# Altium integrated library TB's.IntLib: 17 symbols
Pins are listed as number, name and electrical type; pins without a type are passive.

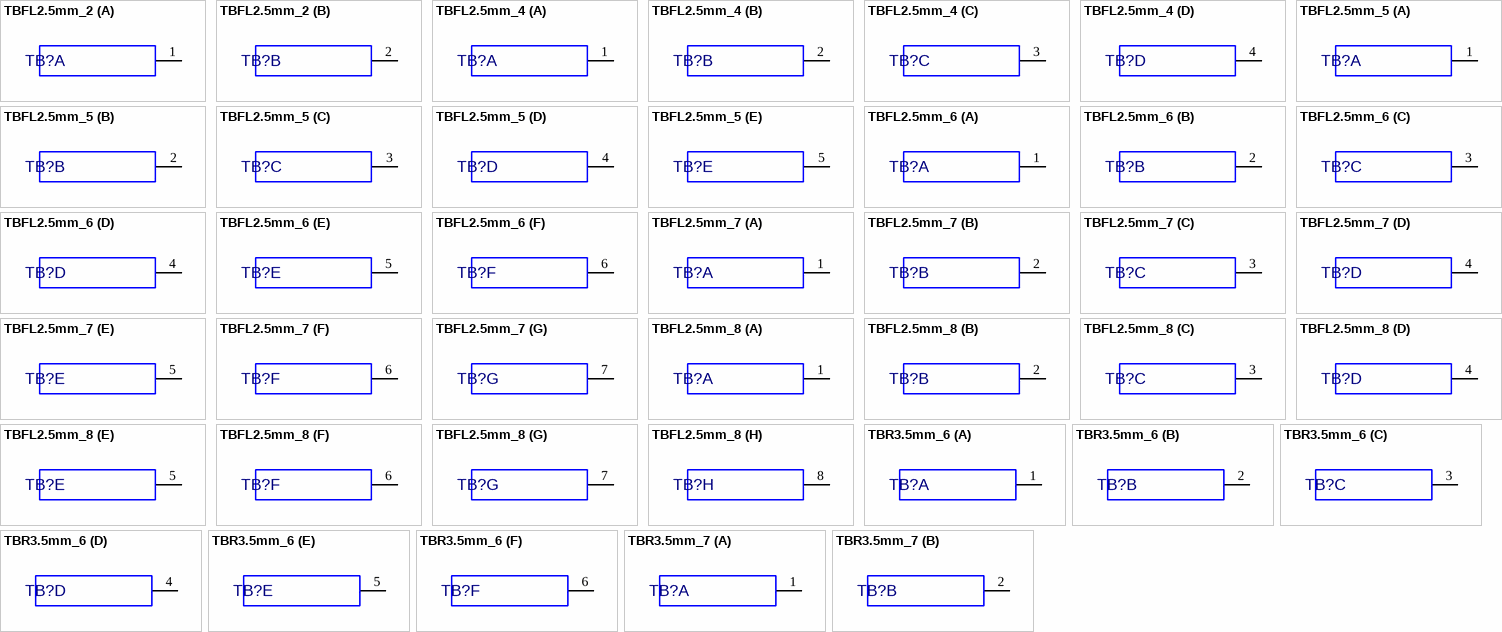
[diagram p0: symbols TBFL2.5mm_2 to TBR3.5mm_7]

## TBFL2.5mm_2
designator TB?, comment 60142-0029  (value not drawn)
Terminal Block, 2 Pos; Value: {Value}; ECAD_Revsion: 1; Librarian: US; PartNumber: 60142-0029; HelpURL: K:\ACCELEDA\PDF Spec Files\TB\24.pdf; Item: *
footprint TBFL2
part A pins: 1 PIN, 3 PIN
part B pins: 2 PIN, 4 PIN

## TBFL2.5mm_4
designator TB?, comment 60142-0045  (value not drawn)
Terminal Block, 4 Pos; Value: {Value}; ECAD_Revsion: 1; Librarian: US; PartNumber: 60142-0045; HelpURL: K:\ACCELEDA\PDF Spec Files\TB\24.pdf; Item: *
footprint TBFL4
part A pins: 1 PIN, 5 PIN
part B pins: 2 PIN, 6 PIN
part C pins: 3 PIN, 7 PIN
part D pins: 4 PIN, 8 PIN

## TBFL2.5mm_5
designator TB?, comment 60142-0052  (value not drawn)
Terminal Block, 5 Pos; Value: {Value}; ECAD_Revsion: 1; Librarian: US; PartNumber: 60142-0052; HelpURL: K:\ACCELEDA\PDF Spec Files\TB\24.pdf; Item: *
footprint TBFL5
part A pins: 1 PIN, 6 PIN
part B pins: 2 PIN, 7 PIN
part C pins: 3 PIN, 8 PIN
part D pins: 4 PIN, 9 PIN
part E pins: 5 PIN, 10 PIN

## TBFL2.5mm_6
designator TB?, comment 60142-0060  (value not drawn)
Terminal Block, 6 Pos; Value: {Value}; ECAD_Revsion: 1; Librarian: US; PartNumber: 60142-0060; HelpURL: K:\ACCELEDA\PDF Spec Files\TB\24.pdf; Item: *
footprint TBFL6
part A pins: 1 PIN, 7 PIN
part B pins: 2 PIN, 8 PIN
part C pins: 3 PIN, 9 PIN
part D pins: 4 PIN, 10 PIN
part E pins: 5 PIN, 11 PIN
part F pins: 6 PIN, 12 PIN

## TBFL2.5mm_7
designator TB?, comment 60142-0078  (value not drawn)
Terminal Block, 7 Pos; Value: {Value}; ECAD_Revsion: 1; Librarian: US; PartNumber: 60142-0078; HelpURL: K:\ACCELEDA\PDF Spec Files\TB\24.pdf; Item: *
footprint TBFL7
part A pins: 1 PIN, 9 PIN
part B pins: 2 PIN, 10 PIN
part C pins: 3 PIN, 11 PIN
part D pins: 4 PIN, 12 PIN
part E pins: 5 PIN, 13 PIN
part F pins: 6 PIN, 14 PIN
part G pins: 7 PIN

## TBFL2.5mm_8
designator TB?, comment 60142-0086  (value not drawn)
Terminal Block, 8 Pos; Value: {Value}; ECAD_Revsion: 1; Librarian: US; PartNumber: 60142-0086; HelpURL: K:\ACCELEDA\PDF Spec Files\TB\24.pdf; Item: *
footprint TBFL8
part A pins: 1 PIN, 9 PIN
part B pins: 2 PIN, 10 PIN
part C pins: 3 PIN, 11 PIN
part D pins: 4 PIN, 12 PIN
part E pins: 5 PIN, 13 PIN
part F pins: 6 PIN, 14 PIN
part G pins: 7 PIN, 15 PIN
part H pins: 8 PIN, 16 PIN

## TBR3.5mm_6
designator TB?, comment TMP_US_TBR3.5MM_6  (value not drawn)
Terminal Block, 6 Pos; Value: {Value}; ECAD_Revsion: 1; Librarian: US; PartNumber: TMP_US_TBR3.5MM_6; HelpURL: K:\ACCELEDA\PDF Spec Files\TB\ctm-hdr.pdf; Item: *
footprint TBR3.5MM_6
part A pins: 1 PIN
part B pins: 2 PIN
part C pins: 3 PIN
part D pins: 4 PIN
part E pins: 5 PIN
part F pins: 6 PIN

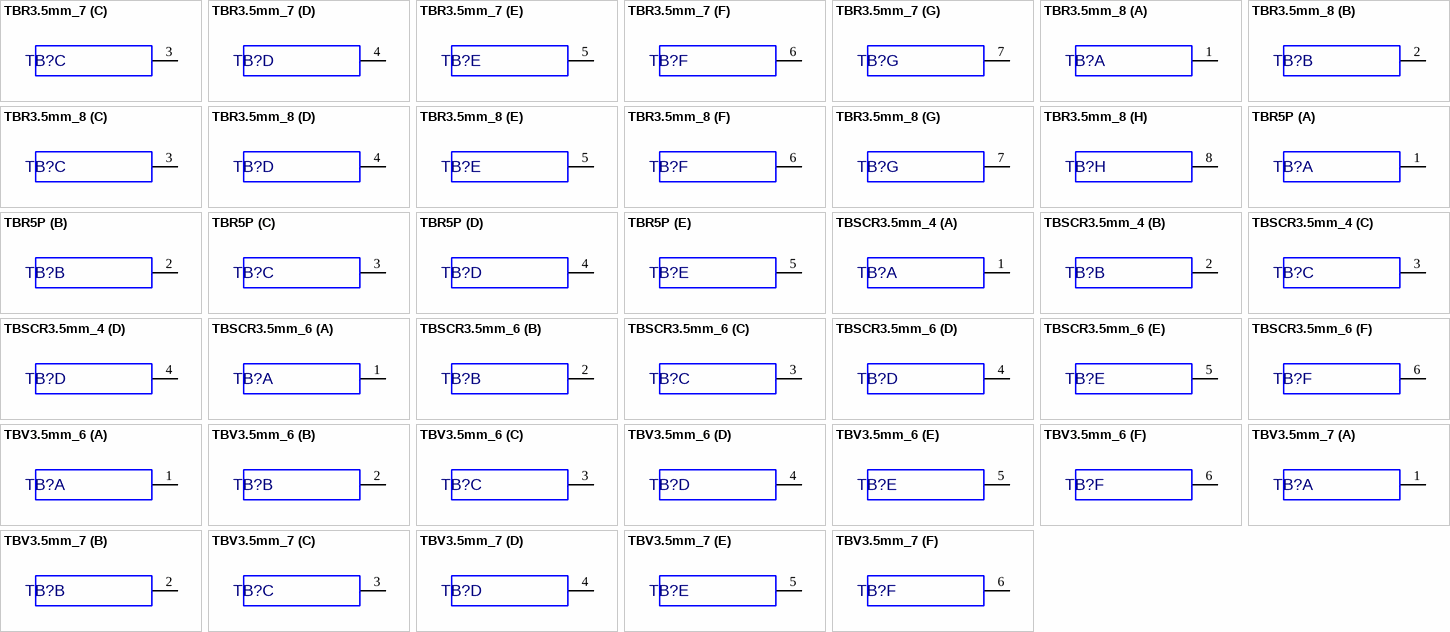
[diagram p1: symbols TBR3.5mm_7 to TBV3.5mm_7]

## TBR3.5mm_7
designator TB?, comment TMP_US_TBR3.5MM_7  (value not drawn)
Terminal Block, 7 Pos; Value: {Value}; ECAD_Revsion: 1; Librarian: US; PartNumber: TMP_US_TBR3.5MM_7; HelpURL: K:\ACCELEDA\PDF Spec Files\TB\ctm-hdr.pdf; Item: *
footprint TBR3.5MM_7
part A pins: 1 PIN
part B pins: 2 PIN
part C pins: 3 PIN
part D pins: 4 PIN
part E pins: 5 PIN
part F pins: 6 PIN
part G pins: 7 PIN

## TBR3.5mm_8
designator TB?, comment TMP_US_TBR3.5MM_8  (value not drawn)
Terminal Block, 8 Pos; Value: {Value}; ECAD_Revsion: 1; Librarian: US; PartNumber: TMP_US_TBR3.5MM_8; HelpURL: K:\ACCELEDA\PDF Spec Files\TB\ctm-hdr.pdf; Item: *
footprint TBR3.5MM_8
part A pins: 1 PIN
part B pins: 2 PIN
part C pins: 3 PIN
part D pins: 4 PIN
part E pins: 5 PIN
part F pins: 6 PIN
part G pins: 7 PIN
part H pins: 8 PIN

## TBR5P
designator TB?, comment 18009-0045  (value not drawn)
Terminal Block, 5 Pos; Value: {Value}; ECAD_Revsion: 1; Librarian: US; PartNumber: 18009-0045; Item: *
footprint TBR5P
part A pins: 1 PIN
part B pins: 2 PIN
part C pins: 3 PIN
part D pins: 4 PIN
part E pins: 5 PIN

## TBSCR3.5mm_4
designator TB?, comment AWT25-500038  (value not drawn)
Terminal Block, 4 Pos; Value: {Value}; ECAD_Revsion: 2; Librarian: US; PartNumber: AWT25-500038; Item: *
footprint TBSCR3.5MM_4
part A pins: 1 PIN
part B pins: 2 PIN
part C pins: 3 PIN
part D pins: 4 PIN

## TBSCR3.5mm_6
designator TB?, comment AWT25-500039  (value not drawn)
Terminal Block, 6 Pos; Value: {Value}; ECAD_Revsion: 2; Librarian: US; PartNumber: AWT25-500039; Item: *
footprint TBSCR3.5MM_6
part A pins: 1 PIN
part B pins: 2 PIN
part C pins: 3 PIN
part D pins: 4 PIN
part E pins: 5 PIN
part F pins: 6 PIN

## TBV3.5mm_6
designator TB?, comment TMP_US_TBV3.5MM_6  (value not drawn)
Terminal Block, 6 Pos; Value: {Value}; ECAD_Revsion: 1; Librarian: US; PartNumber: TMP_US_TBV3.5MM_6; HelpURL: K:\ACCELEDA\PDF Spec Files\TB\ctm-hdr.pdf; Item: *
footprint TBV3.5MM_6
part A pins: 1 PIN
part B pins: 2 PIN
part C pins: 3 PIN
part D pins: 4 PIN
part E pins: 5 PIN
part F pins: 6 PIN

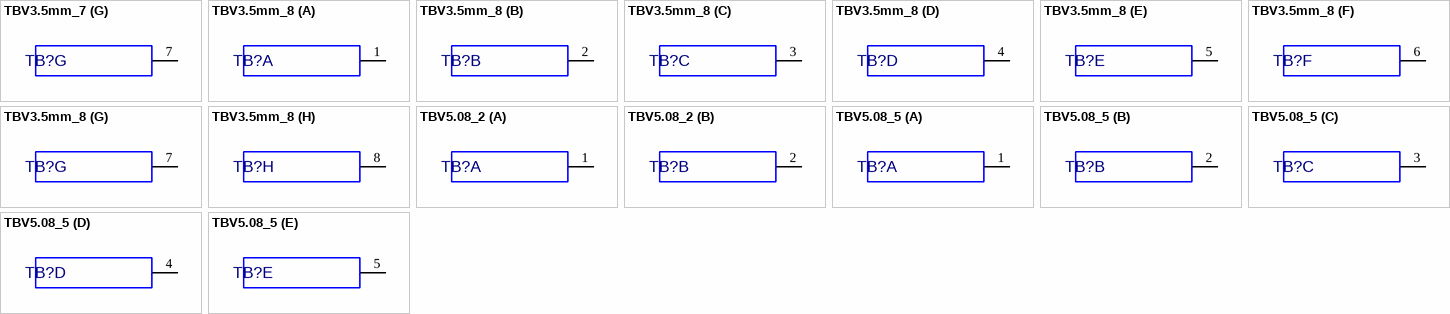
[diagram p2: symbols TBV3.5mm_7 to TBV5.08_5]

## TBV3.5mm_7
designator TB?, comment TMP_US_TBV3.5MM_7  (value not drawn)
Terminal Block, 7 Pos; Value: {Value}; ECAD_Revsion: 1; Librarian: US; PartNumber: TMP_US_TBV3.5MM_7; HelpURL: K:\ACCELEDA\PDF Spec Files\TB\ctm-hdr.pdf; Item: *
footprint TBV3.5MM_7
part A pins: 1 PIN
part B pins: 2 PIN
part C pins: 3 PIN
part D pins: 4 PIN
part E pins: 5 PIN
part F pins: 6 PIN
part G pins: 7 PIN

## TBV3.5mm_8
designator TB?, comment TMP_US_TBV3.5MM_8  (value not drawn)
Terminal Block, 8 Pos; Value: {Value}; ECAD_Revsion: 1; Librarian: US; PartNumber: TMP_US_TBV3.5MM_8; HelpURL: K:\ACCELEDA\PDF Spec Files\TB\ctm-hdr.pdf; Item: *
footprint TBV3.5MM_8
part A pins: 1 PIN
part B pins: 2 PIN
part C pins: 3 PIN
part D pins: 4 PIN
part E pins: 5 PIN
part F pins: 6 PIN
part G pins: 7 PIN
part H pins: 8 PIN

## TBV5.08_2
designator TB?, comment 18009-0250  (value not drawn)
Terminal Block, 2 Pos; Value: {Value}; ECAD_Revsion: 1; Librarian: US; PartNumber: 18009-0250; Item: *
footprint TBV5.08MM_2
part A pins: 1 PIN
part B pins: 2 PIN

## TBV5.08_5
designator TB?, comment 18009-0284  (value not drawn)
Terminal Block, 5 Pos; Value: {Value}; ECAD_Revsion: 1; Librarian: US; PartNumber: 18009-0284; Item: *
footprint TBV5.08MM_5
part A pins: 1 PIN
part B pins: 2 PIN
part C pins: 3 PIN
part D pins: 4 PIN
part E pins: 5 PIN